# Altium schematic symbol library Button.SchLib: 25 symbols
Pins are listed as number, name and electrical type; pins without a type are passive.

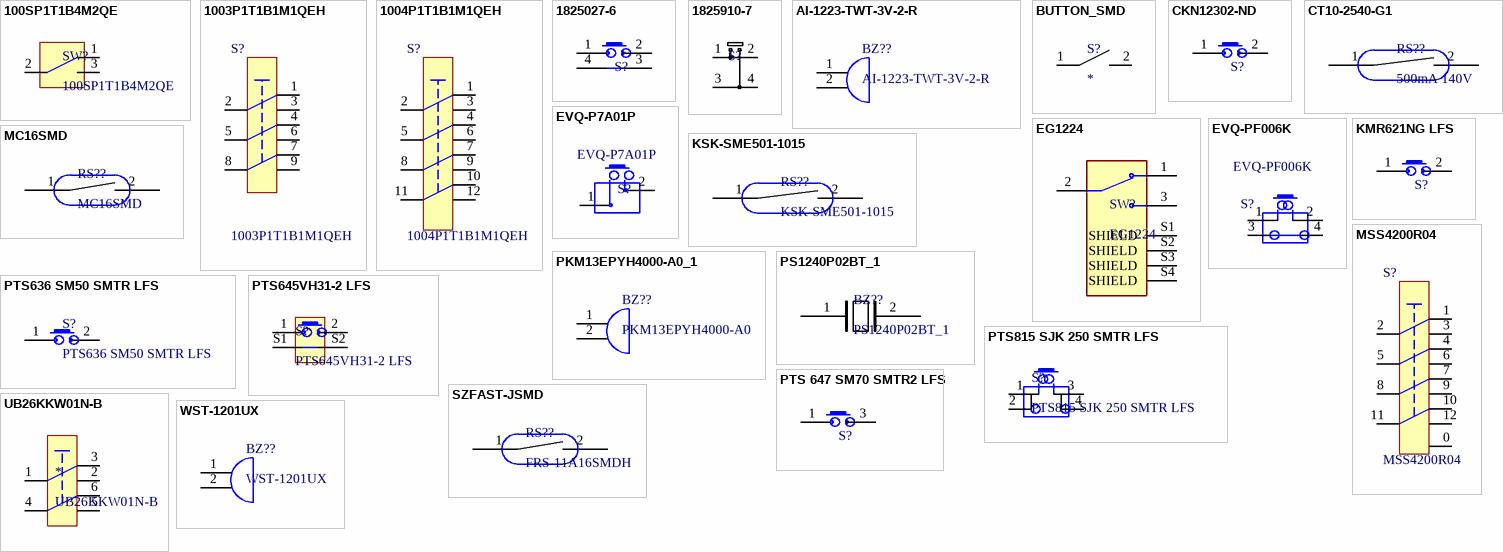
[diagram p0: symbols 100SP1T1B4M2QE to WST-1201UX]

## 100SP1T1B4M2QE
designator SW?
SWITCH TOGGLE SPDT 5A 120V; Manufacturer: E-Switch; Actuator Material: Brass,Chrome; Voltage Rating (DC): 28V; Illumination Type: Non-Illuminated,Illuminated; Electrical Life: 40000Cycles; Switch Function: On-On; Actuator Type: Standard Round; Actuator Length: 12.19mm; Supplier 1: Digi-Key; Manufacturer Part Number: 100SP1T1B4M2QE; RoHS: Yes; Category: Toggle Switches; Stock 1: 6349; Pricing 1: 1=2,59000, 10=2,32000, 25=2,19320, 50=2,09780, 100=1,99180, 250=1,90708, 500=1,76934, 1000=1,68459 (USD); Mount: Through Hole; Contact Material: Silver; Contact Plating: Silver; Min Operating Temperature: -30°C; Max Operating Temperature: 85°C; Package Quantity: 1; Current Rating: 5A; Voltage Rating (AC): 120V; Packaging: Bulk; Termination: PC Pin; Throw Configuration: SPDT; Orientation: Vertical; Series: 100; Lead Free: Lead Free; RoHS Compliant: Yes; ComponentLink1URL: https://datasheet.ciiva.com/24455/t111597-24455739.pdf?src-supplier=Onlinecomponents.com; ComponentLink1Description: https://datasheet.ciiva.com/24455/t111597-24455739.pdf?src-supplier=Onlinecomponents.com; ComponentLink2URL: https://datasheet.ciiva.com/2905/t111597-2905494.pdf?src-supplier=Digi-Key; ComponentLink2Description: https://datasheet.ciiva.com/2905/t111597-2905494.pdf?src-supplier=Digi-Key; Supplier Part Number 1: EG2355-ND
footprint 100SP1T1B4M2QE
pins: 1, 2 ILIM, 3

## 1003P1T1B1M1QEH
designator S?  (mechanical)
SWITCH TOGGLE 3PDT 5A 120V; Manufacturer 1: E-Switch; Actuator Material: Brass,Chrome; Voltage Rating (DC): 28V; Illumination Type: Illuminated,Non-Illuminated; Electrical Life: 40000Cycles; Switch Function: On-On; Actuator Type: Standard Round; Actuator Length: 10.41mm; Supplier 1: Digi-Key; Manufacturer Part Number 1: 1003P1T1B1M1QEH; RoHS: Yes; Category: Toggle Switches; Stock 1: 205; Pricing 1: 1=6,40000, 10=5,76800, 25=5,48000, 50=5,24920, 100=5,07620, 250=4,81664, 500=4,44170, 1000=4,23980 (USD); Mount: Panel; Contact Plating: Silver; Contact Material: Copper,Silver; Min Operating Temperature: -30°C; Max Operating Temperature: 85°C; Voltage Rating (AC): 120V; Package Quantity: 1; Current Rating: 5A; Packaging: Bulk; Throw Configuration: 3PDT; Termination: Solder; Orientation: Vertical; Series: 100; REACH SVHC: No SVHC; Lead Free: Lead Free; RoHS Compliant: Yes; ComponentLink1URL: https://datasheet.ciiva.com/2904/pcn20100172010058831-yyy20design20change-2904918.pdf?src-supplier=Digi-Key; ComponentLink1Description: https://datasheet.ciiva.com/2904/pcn20100172010058831-yyy20design20change-2904918.pdf?src-supplier=Digi-Key; ComponentLink2URL: https://datasheet.ciiva.com/16323/100-16323421.pdf?src-supplier=Future+Electronics; ComponentLink2Description: https://datasheet.ciiva.com/16323/100-16323421.pdf?src-supplier=Future+Electronics; Supplier Part Number 1: EG2424-ND
pins: 1, 2 ILIM, 3, 4, 5 ILIM, 6, 7, 8 ILIM, 9

## 1004P1T1B1M1QEH
designator S?  (mechanical)
SWITCH TOGGLE 4PDT 5A 120V; Manufacturer 1: E-Switch; Actuator Material: Brass,Chrome; Illumination Type: Illuminated,Non-Illuminated; Voltage Rating (DC): 28V; Electrical Life: 40000Cycles; Switch Function: On-On; Actuator Type: Standard Round; Actuator Length: 10.41mm; Supplier 1: Digi-Key; Manufacturer Part Number 1: 1004P1T1B1M1QEH; RoHS: Yes; Category: Toggle Switches; Stock 1: 146; Pricing 1: 1=9,91000, 10=8,92600, 25=8,55240, 50=8,13180, 100=7,80470, 250=7,33736, 500=6,77654, 1000=6,54287 (USD); Mount: Panel; Contact Material: Copper,Silver; Contact Plating: Silver; Min Operating Temperature: -30°C; Max Operating Temperature: 85°C; Package Quantity: 1; Voltage Rating (AC): 120V; Current Rating: 5A; Packaging: Bulk; Throw Configuration: 4PDT; Termination: Solder; Orientation: Vertical; Series: 100; Lead Free: Lead Free; RoHS Compliant: Yes; ComponentLink1URL: https://datasheet.ciiva.com/2905/100-2905550.pdf?src-supplier=Digi-Key; ComponentLink1Description: https://datasheet.ciiva.com/2905/100-2905550.pdf?src-supplier=Digi-Key; Supplier Part Number 1: EG2428-ND
pins: 1, 2 ILIM, 3, 4, 5 ILIM, 6, 7, 8 ILIM, 9, 10, 11 ILIM, 12

## 1825027-6
designator S?  (value not drawn)
SWITCH TACTILE SPST-NO 0.05A 24V; Manufacturer 1: TE Connectivity; Actuator Material: PBT; Switch Function: Off-Mom; Throw Configuration: SPST; Operating Force: 2.55N; Contact Resistance: 100mR; Contact Current Rating: 50mA; Actuator Type: Standard; Electrical Life: 100000Cycles; Illumination Type: Non-Illuminated; Actuator Length: 1.24mm; Supplier 1: Digi-Key; Manufacturer Part Number 1: 1825027-6; Stock 1: 2871; Pricing 1: 1=0,31000, 10=0,28900, 25=0,24760, 50=0,21060, 100=0,20230, 250=0,18164, 500=0,17338, 1000=0,14448, 2500=0,13210 (USD); RoHS: Yes; Mount: Through Hole; Contact Material: Copper Alloy; Contact Plating: Silver; Housing Material: Nylon; Material: Nylon; Min Operating Temperature: -35°C; Max Operating Temperature: 85°C; Type: Switch; Voltage Rating (DC): 24V; Max Voltage Rating (DC): 24V; Packaging: Loose Piece; Max Current Rating: 50mA; Package Quantity: 1000; Current Rating: 50mA; Orientation: Right Angle; Termination: PC Pins; Length: 7.11mm; Height: 7mm; Depth: 7.87mm; Radiation Hardening: No; ComponentLink1URL: https://datasheet.ciiva.com/8164/eng-cd-1825027-g4-8164816.pdf?src-supplier=Avnet; ComponentLink1Description: https://datasheet.ciiva.com/8164/eng-cd-1825027-g4-8164816.pdf?src-supplier=Avnet; Supplier Part Number 1: A109320-ND
footprint 1825027-6
pins: 1, 2, 3, 4

## 1825910-7
designator S?  (value not drawn)
SWITCH TACTILE SPST-NO 0.05A 24V; Manufacturer: TE Connectivity; Manufacturer Part Number: FSM4JAH; Contact Current Rating: 50mA; Operating Force: 2.55N; Throw Configuration: SPST; Illumination Type: Illuminated; Actuator Length: 1.4mm; ComponentLink1URL: http://www.te.com/commerce/DocumentDelivery/DDEController?Action=srchrtrv&DocNm=1825910&DocType=Customer+Drawing&DocLang=English; ComponentLink1Description: http://www.te.com/commerce/DocumentDelivery/DDEController?Action=srchrtrv&DocNm=1825910&DocType=Customer+Drawing&DocLang=English; Supplier 1: Digi-Key; Stock 1: 144347; Pricing 1: 1 = 0,11000, 10 = 0,10600, 25 = 0,10240, 50 = 0,09900, 100 = 0,09340, 250 = 0,08792, 500 = 0,08428, 1000 = 0,06412, 5000 = 0,05313 (USD); RoHS: Yes; Mount: Surface Mount; Contact Material: Silver; Min Operating Temperature: -35°C; Max Operating Temperature: 85°C; Package Quantity: 750; Voltage Rating (DC): 24V; Termination: Solder; Current Rating: 50mA; REACH SVHC: Unknown; ComponentLink2URL: https://datasheet.ciiva.com/24475/17-24475564.pdf?src-supplier=Onlinecomponents.com; ComponentLink2Description: https://datasheet.ciiva.com/24475/17-24475564.pdf?src-supplier=Onlinecomponents.com; Supplier Part Number 1: 450-1804-ND
footprint FSMJ-TACTILE SWITCH (6mm X 6mm X 5mm)
pins: 1, 2, 3, 4

## AI-1223-TWT-3V-2-R
designator BZ??
AUDIO MAGNETIC INDICATOR 2-4V TH; Manufacturer 1: Projects Unlimited; Voltage Rating: 3V; Frequency: 2.3kHz; Operating Supply Current: 30mA; Min Supply Voltage (DC): 2V; Max Supply Voltage (DC): 4V; Supplier 1: Digi-Key; Manufacturer Part Number 1: AI-1223-TWT-3V-2-R; RoHS: Yes; Category: Audio Products; Stock 1: 17902; Pricing 1: 1=1,33000, 10=1,10800, 25=1,02560, 50=0,96540, 100=0,90720, 500=0,78050, 1000=0,72963, 5000=0,71500 (USD); Mount: Through Hole; Contact Plating: Tin; Min Operating Temperature: -20°C; Max Operating Temperature: 70°C; Packaging: Tray; Termination: PC Pins; Nominal Supply Voltage (DC): 3V; Max Supply Current: 30mA; Sensing Method: Magnetic; Diameter: 12mm; Height: 7.5mm; ComponentLink1URL: http://www.puiaudio.com/pdf/AI-1223-TWT-3V-2-R.pdf?src-supplier=Avnet; ComponentLink1Description: http://www.puiaudio.com/pdf/AI-1223-TWT-3V-2-R.pdf?src-supplier=Avnet; ComponentLink2URL: http://www.puiaudio.com/pdf/AI-1223-TWT-3V-2-R.pdf?src-supplier=Digi-Key; ComponentLink2Description: http://www.puiaudio.com/pdf/AI-1223-TWT-3V-2-R.pdf?src-supplier=Digi-Key; Supplier Part Number 1: 668-1456-ND
footprint Buzz (d12)
pins: 1, 2

## BUTTON_SMD
designator S?
BUTTON_SMD
footprint BUT_SMD
pins: 1 ILIM, 2 ILIM

## CKN12302-ND
designator S?  (value not drawn)
TACT 6.0 X 3.5, 4.3 MM H, 180GF,; Manufacturer: ITT C&K; Manufacturer Part Number: PTS636SK43LFS; Supplier 1: Digi-Key; Stock 1: 0; RoHS: No; Supplier Part Number 1: CKN12303-ND
footprint CKN12302-ND
pins: 1, 2

## CT10-2540-G1
designator RS??, comment 500mA 140V
SWITCH REED SPST-NO 500MA 140V; Manufacturer: Coto Technology; Manufacturer Part Number: CT10-2540-G1; Contact Resistance: 200mR; Throw Configuration: SPST; Voltage Rating (DC): 200V; Supplier 1: Digi-Key; Stock 1: 99353; Pricing 1: 1 = 0,97000, 10 = 0,85500, 25 = 0,82040, 50 = 0,76920, 100 = 0,75210, 250 = 0,59828, 500 = 0,54700, 1000 = 0,52991 (USD); RoHS: Yes; Mount: Surface Mount; Case/Package: Molded; Package Quantity: 1; Packaging: Tape and Reel; Termination: Gull Wing; Current Rating: 500mA; Height: 2.92mm; REACH SVHC: No SVHC; Lead Free: Lead Free; ComponentLink1URL: https://datasheet.ciiva.com/2868/ct10-zzz-g1-2868629.pdf?src-supplier=Digi-Key; ComponentLink1Description: https://datasheet.ciiva.com/2868/ct10-zzz-g1-2868629.pdf?src-supplier=Digi-Key; ComponentLink2URL: https://datasheet.ciiva.com/2868/ct10-zzz-g1-2868630.pdf?src-supplier=Digi-Key; ComponentLink2Description: https://datasheet.ciiva.com/2868/ct10-zzz-g1-2868630.pdf?src-supplier=Digi-Key; ComponentLink3URL: https://datasheet.ciiva.com/2868/ct10-zzz-g1-2868631.pdf?src-supplier=Digi-Key; ComponentLink3Description: https://datasheet.ciiva.com/2868/ct10-zzz-g1-2868631.pdf?src-supplier=Digi-Key; Supplier Part Number 1: 306-1126-1-ND
footprint CT10-2540-G1
pins: 1, 2

## EG1224
designator SW?
SWITCH SLIDE SPDT 500MA 15V; Manufacturer: E-Switch; Operating Force: 250gf; Contact Style: Non-Shorting; Electrical Life: 10000Cycles; Switch Travel: 4mm; Switch Function: On-On; Actuator Type: Standard; Actuator Length: 8.5mm; Supplier 1: Digi-Key; Manufacturer Part Number: EG1224; RoHS: Yes; Category: Slide Switches; Stock 1: 15046; Pricing 1: 1=0,94000, 10=0,90900, 25=0,84920, 100=0,73740, 250=0,67096, 500=0,62204, 1000=0,57661, 2500=0,52419, 5000=0,48924 (USD); Mount: Through Hole,Brackets; Contact Material: Copper Alloy,Copper,Silver; Contact Plating: Silver; Min Operating Temperature: -20°C; Max Operating Temperature: 70°C; Throw Configuration: SPDT; Package Quantity: 250; Contact Current Rating: 500mA; Voltage Rating (AC): 15V; Packaging: Bulk; Current Rating: 500mA; Voltage Rating (DC): 15V; Termination: PC Pin; Orientation: Right Angle; Series: EG; REACH SVHC: No SVHC; Lead Free: Lead Free; RoHS Compliant: Yes; ComponentLink1URL: https://datasheet.ciiva.com/16174/p040042-16174259.pdf?src-supplier=Onlinecomponents.com; ComponentLink1Description: https://datasheet.ciiva.com/16174/p040042-16174259.pdf?src-supplier=Onlinecomponents.com; ComponentLink2URL: https://datasheet.ciiva.com/6967/p040042-6967520.pdf?src-supplier=Newark; ComponentLink2Description: https://datasheet.ciiva.com/6967/p040042-6967520.pdf?src-supplier=Newark; ComponentLink3URL: https://datasheet.ciiva.com/2889/p040042-2889386.pdf?src-supplier=Digi-Key; ComponentLink3Description: https://datasheet.ciiva.com/2889/p040042-2889386.pdf?src-supplier=Digi-Key; Supplier Part Number 1: EG2585-ND
footprint SW_EG1224
pins: 1, 2, 3, S1 SHIELD, S2 SHIELD, S3 SHIELD, S4 SHIELD

## EVQ-P7A01P
designator S?
SWITCH TACTILE SPST-NO 0.05A 12V; Manufacturer 1: Panasonic; Description 1: SWITCH, TACTILE, SPST-NO, 50mA, 12VDC, S; Mechanical Life: 100000Cycles; Throw Configuration: SPST; Operating Force: 2.2N; Contact Resistance: 500mR; Illumination Type: Non-Illuminated; Contact Current Rating: 50mA; Switch Travel: 0.2mm; Switch Function: Off-Mom; Actuator Length: 0.65mm; ComponentLink1URL: https://www3.panasonic.biz/ac/e_download/control/switch/light-touch/catalog/sw_lt_eng_3529s_side.pdf; ComponentLink1Description: https://www3.panasonic.biz/ac/e_download/control/switch/light-touch/catalog/sw_lt_eng_3529s_side.pdf; Supplier 1: Digi-Key; Supplier Part Number 1: P16763CT-ND; Stock 1: 7230; Pricing 1: 1=0.3, 10=0.294, 25=0.2832, 50=0.2726, 100=0.2621, 250=0.24112, 500=0.20966, 1000=0.17821 (USD); Mount: Surface Mount; Case/Package: SMD/SMT; Min Operating Temperature: -20°C; Max Operating Temperature: 70°C; Max Voltage Rating (DC): 12V; Packaging: Tape and Reel; Package Quantity: 1; Termination: Gull Wing; Electrical Life: 100000Cycles; Orientation: Right Angle; Radiation Hardening: No; REACH SVHC: Unknown; Lead Free: Lead Free; Manufacturer Part Number 1: EVQ-P7A01P
footprint EVQP7A
pins: 1, 2

## EVQ-PF006K
designator S?
Switch;  Tactile;  SPST;  Black btn;  Rightangle pcb mount;  OF=1.0N;  Btn Hgt=5.85mm; Manufacturer 1: Panasonic; Mechanical Life: 100000Cycles; Max Current Rating: 20mA; Operating Force: 1N; Voltage Rating (DC): 15V; Contact Resistance: 50mR; Illumination Type: Illuminated,Non-Illuminated; Switch Travel: 0.25mm; Switch Function: Off-Mom; Actuator Type: Standard; Actuator Length: 5.85mm; ComponentLink1URL: https://datasheet.ciiva.com/25603/0900766b810ad1ef-25603888.pdf; ComponentLink1Description: https://datasheet.ciiva.com/25603/0900766b810ad1ef-25603888.pdf; ComponentLink2URL: https://datasheet.ciiva.com/2899/atk0000ce32-2899699.pdf; ComponentLink2Description: https://datasheet.ciiva.com/2899/atk0000ce32-2899699.pdf; ComponentLink3URL: https://datasheet.ciiva.com/16958/70270713-16958584.pdf; ComponentLink3Description: https://datasheet.ciiva.com/16958/70270713-16958584.pdf; ComponentLink4URL: https://datasheet.ciiva.com/46401/1520557-46401385.pdf; ComponentLink4Description: https://datasheet.ciiva.com/46401/1520557-46401385.pdf; ComponentLink5URL: https://datasheet.ciiva.com/30130/29atk0000ce32-30130702.pdf; ComponentLink5Description: https://datasheet.ciiva.com/30130/29atk0000ce32-30130702.pdf; Supplier 1: Digi-Key; Supplier Part Number 1: P10879S-ND; Description 1: Switch;  Tactile;  SPST;  Black btn;  Rightangle pcb mount;  OF=1.0N;  Btn Hgt=5.85mm; Stock 1: 0; Pricing 1: 1=0.23, 10=0.218, 25=0.2104, 50=0.203, 100=0.1918, 250=0.18048, 500=0.17296, 1000=0.1316, 5000=0.10904 (USD); Mount: Through Hole; Colour: Black; Contact Plating: Gold,Silver; Min Operating Temperature: -20°C; Max Operating Temperature: 70°C; Packaging: Bulk; Package Quantity: 500; Throw Configuration: SPST; Current Rating: 20mA; Max Voltage Rating (DC): 15V; Contact Current Rating: 20mA; Termination: PC Pins; Electrical Life: 100000Cycles; Orientation: Right Angle; Length: 6.2mm; Height: 7.1mm; Width: 4mm; Depth: 9.85mm; Radiation Hardening: No; REACH SVHC: No SVHC; Lead Free: Lead Free; Manufacturer Part Number 1: EVQ-PF006K
footprint EVQ-PF006K
pins: 1, 2, 3, 4

## KMR621NG LFS
designator S?  (value not drawn)
SWITCH TACTILE SPST-NO 50MA 32V; Manufacturer 1: ITT C&K; Mechanical Life: 200000Cycles; Illumination Type: Non-Illuminated; Operating Force: 200gf; Throw Configuration: SPST; Switch Function: Off-Mom; Actuator Type: Standard; Ratings: IP67,Waterproof,Dust Tight; Supplier 1: Digi-Key; Manufacturer Part Number 1: KMR621NGLFS; RoHS: No; Category: Tactile Switches; Pricing 1: 1=0,38000, 10=0,36900, 25=0,34760, 100=0,30180, 250=0,27376, 500=0,25466, 1000=0,22919, 2500=0,21519 (USD); Mount: Surface Mount; Min Operating Temperature: -40°C; Max Operating Temperature: 85°C; Packaging: Tape and Reel; Termination: Gull Wing; RoHS Compliant: No; ComponentLink1URL: http://www.farnell.com/datasheets/2706242.pdf?src-supplier=Farnell; ComponentLink1Description: http://www.farnell.com/datasheets/2706242.pdf?src-supplier=Farnell; ComponentLink2URL: https://www.ckswitches.com/media/1907/kmr6.pdf?src-supplier=Digi-Key; ComponentLink2Description: https://www.ckswitches.com/media/1907/kmr6.pdf?src-supplier=Digi-Key; Supplier Part Number 1: CKN10684CT-ND
footprint KMR2
pins: 1, 2

## KSK-SME501-1015
designator RS??
footprint KSK-SME501-1015
footprint KSK-SME501-1015(22)
pins: 1, 2

## MC16SMD
designator RS??
SWITCH REED A-SPST 500MA; Throw Configuration: SPST; Manufacturer Part Number: MC16SMD; Mount: Surface Mount; Current Rating: 500mA; Supplier Part Number 1: MC16SMD
footprint mc16smd
pins: 1, 2

## MSS4200R04
designator S?
SWITCH SLIDE 4PDT 300MA 125V; Manufacturer 1: TE Connectivity; Actuator Material: Polyester; Contact Resistance: 30mR; Electrical Life: 15000Cycles; Supplier 1: Digi-Key; RoHS: Yes; Category: Slide Switches; Stock 1: 509; Pricing 1: 1=4,32000, 10=4,14000, 25=3,78000, 100=3,27600, 250=2,97000, 500=2,75400, 1000=2,55600, 2500=2,32200, 5000=2,16000 (USD); Mount: Through Hole,Brackets; Contact Material: Copper Alloy; Contact Plating: Silver; Min Operating Temperature: -20°C; Max Operating Temperature: 85°C; Max Voltage Rating (AC): 125V; Orientation: Right Angle; Voltage Rating (AC): 125V; Packaging: Bulk; Contact Current Rating: 300mA; Package Quantity: 350; Throw Configuration: 4PDT; Termination: Solder; Lead Free: Lead Free; Flammability Rating: UL94 V-0; ComponentLink1URL: https://datasheet.ciiva.com/24340/eng-cs-1308111-1-switches-core-program-catalog-03082-24340072.pdf?src-supplier=Onlinecomponents.com; ComponentLink1Description: https://datasheet.ciiva.com/24340/eng-cs-1308111-1-switches-core-program-catalog-03082-24340072.pdf?src-supplier=Onlinecomponents.com; Supplier Part Number 1: 450-1594-ND; Manufacturer Part Number 1: MSS4200R04
footprint 1825265-1
pins: 0, 1, 2 ILIM, 3, 4, 5 ILIM, 6, 7, 8 ILIM, 9, 10, 11 ILIM, 12

## PKM13EPYH4000-A0_1
designator BZ??, comment PKM13EPYH4000-A0
Buzzers Transducer, Externally Driven Piezo 1.5V  4kHz 70dB @ 1.5V, 10cm Through Hole PC Pins; Manufacturer: Murata; Max Supply Voltage: 25V; Capacitance: 5.5nF; Voltage Rating: 3V; Voltage Rating (DC): 30V; Washable: No; Supplier 1: Digi-Key; Manufacturer Part Number: PKM13EPYH4000-A0; Stock 1: 7904; Pricing 1: 1 = 0,60000, 10 = 0,50900, 25 = 0,47640, 50 = 0,45180, 100 = 0,42780 (USD); RoHS: Yes; Mount: Through Hole; Min Operating Temperature: -40°C; Max Operating Temperature: 85°C; Frequency: 4kHz; Self Resonant Frequency: 4kHz; Package Quantity: 500; Packaging: Bulk; Nominal Input Voltage: 3V; Termination: Solder; Max Frequency: 4kHz; Diameter: 12.6mm; Height: 6.9mm; Radiation Hardening: No; REACH SVHC: No SVHC; Lead Free: Lead Free; ComponentLink1URL: https://datasheet.ciiva.com/3333/03787082-3333926.pdf?src-supplier=Distrelec; ComponentLink1Description: https://datasheet.ciiva.com/3333/03787082-3333926.pdf?src-supplier=Distrelec; ComponentLink2URL: https://datasheet.ciiva.com/1324/9058-1324032.pdf?src-supplier=Element14; ComponentLink2Description: https://datasheet.ciiva.com/1324/9058-1324032.pdf?src-supplier=Element14; ComponentLink3URL: https://datasheet.ciiva.com/11776/0900766b8067c4cd-11776627.pdf?src-supplier=RSComponents; ComponentLink3Description: https://datasheet.ciiva.com/11776/0900766b8067c4cd-11776627.pdf?src-supplier=RSComponents; ComponentLink4URL: https://datasheet.ciiva.com/27054/1874535-27054382.pdf?src-supplier=Jameco; ComponentLink4Description: https://datasheet.ciiva.com/27054/1874535-27054382.pdf?src-supplier=Jameco; ComponentLink5URL: https://datasheet.ciiva.com/2995/p37e-2995558.pdf?src-supplier=Avnet; ComponentLink5Description: https://datasheet.ciiva.com/2995/p37e-2995558.pdf?src-supplier=Avnet; ComponentLink6URL: https://datasheet.ciiva.com/0/s0040e-119.pdf?src-supplier=Digi-Key; ComponentLink6Description: https://datasheet.ciiva.com/0/s0040e-119.pdf?src-supplier=Digi-Key; Supplier Part Number 1: 490-4698-1-ND
footprint PKM13EPYH4000-A0
pins: 1, 2

## PS1240P02BT_1
designator BZ??
AUDIO PIEZO TRANSDUCER 30V TH; Manufacturer: TDK; Frequency: 4kHz; Operating Supply Voltage: 3V; Washable: No; Supplier 1: Digi-Key; Manufacturer Part Number: PS1240P02BT; Stock 1: 19744; Pricing 1: 1 = 0,68000, 10 = 0,57800, 25 = 0,54040, 50 = 0,51240, 100 = 0,48530 (USD); RoHS: Yes; Mount: Through Hole; Number of Terminals: 2; Min Operating Temperature: -10°C; Max Operating Temperature: 70°C; Package Quantity: 1; Packaging: Tape and Reel; Termination: PC Pins; Voltage Rating (DC): 3V; Diameter: 12.2mm; Height: 6.5mm; Lead Free: Lead Free; ComponentLink1URL: https://datasheet.ciiva.com/0/ef532-ps-112.pdf?src-supplier=Digi-Key; ComponentLink1Description: https://datasheet.ciiva.com/0/ef532-ps-112.pdf?src-supplier=Digi-Key; ComponentLink2URL: https://datasheet.ciiva.com/16225/ef532-ps-16225062.pdf?src-supplier=Onlinecomponents.com; ComponentLink2Description: https://datasheet.ciiva.com/16225/ef532-ps-16225062.pdf?src-supplier=Onlinecomponents.com; ComponentLink3URL: https://datasheet.ciiva.com/3306/ef532-ps-3306958.pdf?src-supplier=Avnet; ComponentLink3Description: https://datasheet.ciiva.com/3306/ef532-ps-3306958.pdf?src-supplier=Avnet; ComponentLink4URL: https://datasheet.ciiva.com/0/ef532-ps-111.pdf?src-supplier=Digi-Key; ComponentLink4Description: https://datasheet.ciiva.com/0/ef532-ps-111.pdf?src-supplier=Digi-Key; Supplier Part Number 1: 445-2525-1-ND
footprint PS1240P02BT
pins: 1, 2

## PTS636 SM50 SMTR LFS
designator S?
TACT 6.0 X 3.5, 5.0 MM H, 180GF,; Manufacturer: ITT C&K; Supplier 1: Digi-Key; Manufacturer Part Number: PTS636SM50SMTRLFS; RoHS: No; Stock 1: 225; Pricing 1: 1=0,12000, 10=0,11800, 25=0,11200, 100=0,10160, 250=0,09556, 500=0,08742 (USD); Supplier Part Number 1: CKN12314-1-ND
footprint PTS636
pins: 1, 2

## PTS645VH31-2 LFS
designator S?
SWITCH TACTILE SPST-NO 0.05A 12V; Manufacturer: ITT C&K; Mechanical Life: 100000Cycles; Actuator Material: Nylon,Polyamide,PA66; Current Rating: 50mA; Operating Force: 200gf; Throw Configuration: SPST; Illumination Type: Non-Illuminated; Switch Function: Off-Mom; Actuator Type: Standard; Supplier 1: Digi-Key; Manufacturer Part Number: PTS645VH31-2LFS; RoHS: Yes; Category: Tactile Switches; Mount: Through Hole; Color: Grey; Contact Plating: Silver; Min Operating Temperature: -20°C; Max Operating Temperature: 60°C; Voltage Rating (DC): 12V; Packaging: Bulk; Package Quantity: 1000; Termination: PC Pin; Series: PTS645; Size: 6mm; Lead Free: Lead Free; RoHS Compliant: Yes; ComponentLink1URL: https://datasheet.ciiva.com/24162/pts645vh31+lfs-24162554.pdf?src-supplier=Future+Electronics; ComponentLink1Description: https://datasheet.ciiva.com/24162/pts645vh31+lfs-24162554.pdf?src-supplier=Future+Electronics; ComponentLink2URL: https://datasheet.ciiva.com/14920/pts645-14920699.pdf?src-supplier=Digi-Key; ComponentLink2Description: https://datasheet.ciiva.com/14920/pts645-14920699.pdf?src-supplier=Digi-Key; Supplier Part Number 1: CKN9118-ND
footprint SWITCH-RA-TH
pins: 1, 2, S1, S2

## PTS815 SJK 250 SMTR LFS
designator S?
TACT 4.2 X 3.2, 2.5 MM H, 250GF,; Manufacturer: ITT C&K; Supplier 1: Digi-Key; Manufacturer Part Number: PTS815SJK250SMTRLFS; RoHS: Yes; Stock 1: 98301; Pricing 1: 1=0,18000, 10=0,17700, 25=0,16760, 100=0,15250, 250=0,14332, 500=0,13112, 1000=0,10978 (USD); Supplier Part Number 1: CKN12216-1-ND
footprint PTS815 SJK 250 SMTR LFS
pins: 1, 2, 3, 4

## PTS 647 SM70 SMTR2 LFS
designator S?  (value not drawn)
TACT 4.5 X 4.5, 7.0 MM H, 1.8N,; Manufacturer 1: ITT C&K; Mechanical Life: 100000Cycles; Throw Configuration: SPST; Illumination Type: Non-Illuminated; Switch Function: Off-Mom; Actuator Type: Standard; Operating Force: 180gf; Switch Travel: 0.25mm; Ratings: IP40; Supplier 1: Digi-Key; Manufacturer Part Number 1: PTS647SM70SMTR2LFS; RoHS: No; Category: Tactile Switches; Stock 1: 55744; Pricing 1: 1=0,13000, 10=0,12700, 25=0,12080, 100=0,10970, 250=0,10308, 500=0,09432 (USD); Mount: Surface Mount; Min Operating Temperature: -20°C; Max Operating Temperature: 70°C; Packaging: Tape and Reel; Termination: Gull Wing; ComponentLink1URL: https://www.ckswitches.com/media/2567/pts647.pdf?src-supplier=Digi-Key; ComponentLink1Description: https://www.ckswitches.com/media/2567/pts647.pdf?src-supplier=Digi-Key; Supplier Part Number 1: PTS647SM70SMTR2LFSCT-ND
footprint PTS647 (4.5mmx4.5mm) 7mm
pins: 1, 2, 3, 4

## SZFAST-JSMD
designator RS??, comment FRS-11A16SMDH
SWITCH REED A-SPST 500MA; Manufacturer 1: SHENZHEN Fast Sensor; Manufacturer Part Number 1: FRS-11A16SMDH; Mount: Surface Mount; Throw Configuration: A-SPST; Current Rating: 500mA
footprint SZFAST-JSMD
pins: 1, 2

## UB26KKW01N-B
designator *  (mechanical)
SWITCH PUSHBUTTON DPDT 5A 125V; Manufacturer 1: NKK Switches; Mechanical Life: 200000Cycles; Voltage Rating (DC): 30V; Electrical Life: 10000Cycles; Switch Function: On-On; Actuator Type: Square, Button; Supplier 1: Digi-Key; Manufacturer Part Number 1: UB26KKW01N-B; RoHS: Yes; Category: Pushbutton Switches; Stock 1: 729; Pricing 1: 1=9,50000, 10=8,55700, 25=8,19840, 50=7,79520, 100=7,48160, 250=7,03360, 500=6,49600, 1000=6,27200 (USD); Mount: Panel,Snap in; Case/Package: 125; Contact Plating: Silver; Housing Material: Polyamide; Min Operating Temperature: -20°C; Max Operating Temperature: 70°C; Package Quantity: 1; Current Rating: 5A; Voltage Rating (AC): 125V; Packaging: Bulk; Termination: Solder; Throw Configuration: DPDT; Orientation: Vertical; Series: UB; Lead Free: Contains Lead; Flammability Rating: UL94 V-0; RoHS Compliant: Yes; ComponentLink1URL: https://datasheet.ciiva.com/2876/ubnonilluminated-2876290.pdf?src-supplier=Digi-Key; ComponentLink1Description: https://datasheet.ciiva.com/2876/ubnonilluminated-2876290.pdf?src-supplier=Digi-Key; Supplier Part Number 1: UB26KKW01N-B-ND
pins: 1 ILIM, 2, 3, 4, 5, 6

## WST-1201UX
designator BZ??
AUDIO MAGNETIC XDCR 1.4-2V TH; Manufacturer: Murata; Manufacturer Part Number: PKM13EPYH4000-A0; Max Supply Voltage: 25V; Capacitance: 5.5nF; Frequency: 4kHz; Voltage Rating: 3V; Voltage Rating (DC): 30V; Washable: No; Operating Supply Current: 25mA; Supplier 1: Digi-Key; Stock 1: 7904; Pricing 1: 1 = 0,60000, 10 = 0,50900, 25 = 0,47640, 50 = 0,45180, 100 = 0,42780 (USD); RoHS: Yes; Mount: Through Hole; Min Operating Temperature: -40°C; Max Operating Temperature: 85°C; Self Resonant Frequency: 4kHz; Package Quantity: 500; Packaging: Bulk; Nominal Input Voltage: 3V; Termination: Solder; Max Frequency: 4kHz; Diameter: 12.6mm; Height: 6.9mm; Radiation Hardening: No; REACH SVHC: No SVHC; Lead Free: Lead Free; ComponentLink1URL: https://datasheet.ciiva.com/3333/03787082-3333926.pdf?src-supplier=Distrelec; ComponentLink1Description: https://datasheet.ciiva.com/3333/03787082-3333926.pdf?src-supplier=Distrelec; ComponentLink2URL: https://datasheet.ciiva.com/1324/9058-1324032.pdf?src-supplier=Element14; ComponentLink2Description: https://datasheet.ciiva.com/1324/9058-1324032.pdf?src-supplier=Element14; ComponentLink3URL: https://datasheet.ciiva.com/11776/0900766b8067c4cd-11776627.pdf?src-supplier=RSComponents; ComponentLink3Description: https://datasheet.ciiva.com/11776/0900766b8067c4cd-11776627.pdf?src-supplier=RSComponents; ComponentLink4URL: https://datasheet.ciiva.com/27054/1874535-27054382.pdf?src-supplier=Jameco; ComponentLink4Description: https://datasheet.ciiva.com/27054/1874535-27054382.pdf?src-supplier=Jameco; ComponentLink5URL: https://datasheet.ciiva.com/2995/p37e-2995558.pdf?src-supplier=Avnet; ComponentLink5Description: https://datasheet.ciiva.com/2995/p37e-2995558.pdf?src-supplier=Avnet; ComponentLink6URL: https://datasheet.ciiva.com/0/s0040e-119.pdf?src-supplier=Digi-Key; ComponentLink6Description: https://datasheet.ciiva.com/0/s0040e-119.pdf?src-supplier=Digi-Key; Supplier Part Number 1: 490-4698-1-ND; Supplier 2: Digi-Key; Manufacturer 2: Soberton; Manufacturer Part Number 2: WST-1201UX; Category: Audio Products; Stock 2: 12602; Pricing 2: 1=1,40000, 10=1,16900, 25=1,08160, 50=1,01800, 100=0,95670, 500=0,82308, 1000=0,76943, 5000=0,75400 (USD); Sensing Method: Magnetic; ComponentLink7URL: https://datasheet.ciiva.com/0/wst-1201-ux-768.pdf?src-supplier=Digi-Key; ComponentLink7Description: https://datasheet.ciiva.com/0/wst-1201-ux-768.pdf?src-supplier=Digi-Key; Supplier Part Number 2: 433-1046-ND
footprint Buzz (d12)
pins: 1, 2